# Altium footprint library DF40C-50DP.PcbLib: 1 footprints
Each footprint in its own frame and in the unit in brackets; x right, y up, seen from the top. Pads: shape width x height; smd on the part's side, far side on the other; paste and mask are expansions set on the pad; w line width, h text height; cw(c..) or ccw(c..) is an arc to the next point about the centre after c.
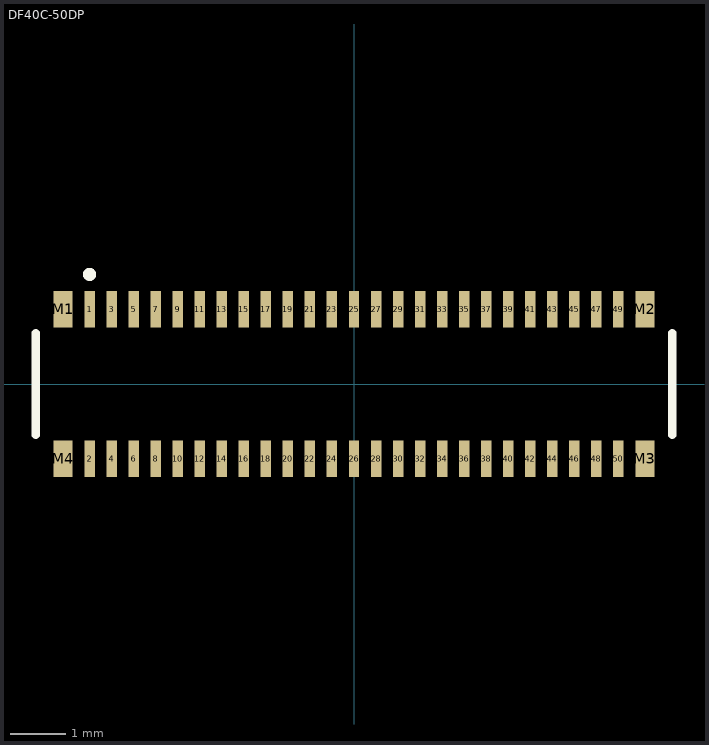
[diagram p0: the footprint, top view; thin cyan lines are the x and y axes]

## DF40C-50DP [mm]
pads (54):
  rect 0.19x0.66 smd: 1(-4.8,1.355) 2(-4.8,-1.355) 3(-4.4,1.355) 4(-4.4,-1.355) 5(-4,1.355) 6(-4,-1.355) 7(-3.6,1.355) 8(-3.6,-1.355) 9(-3.2,1.355) 10(-3.2,-1.355) 11(-2.8,1.355) 12(-2.8,-1.355) 13(-2.4,1.355) 14(-2.4,-1.355) 15(-2,1.355) 16(-2,-1.355) 17(-1.6,1.355) 18(-1.6,-1.355) 19(-1.2,1.355) 20(-1.2,-1.355) 21(-0.8,1.355) 22(-0.8,-1.355) 23(-0.4,1.355) 24(-0.4,-1.355) 25(0,1.355) 26(0,-1.355) 27(0.4,1.355) 28(0.4,-1.355) 29(0.8,1.355) 30(0.8,-1.355) 31(1.2,1.355) 32(1.2,-1.355) 33(1.6,1.355) 34(1.6,-1.355) 35(2,1.355) 36(2,-1.355) 37(2.4,1.355) 38(2.4,-1.355) 39(2.8,1.355) 40(2.8,-1.355) 41(3.2,1.355) 42(3.2,-1.355) 43(3.6,1.355) 44(3.6,-1.355) 45(4,1.355) 46(4,-1.355) 47(4.4,1.355) 48(4.4,-1.355) 49(4.8,1.355) 50(4.8,-1.355)
  rect 0.35x0.66 smd: M1(-5.28,1.355) M2(5.28,1.355) M3(5.28,-1.355) M4(-5.28,-1.355)
Top Overlay:
  circle w0.12: c-4.8,1.99 r0.06
  lines w0.15: -5.775,-0.925 -5.775,0.925 ; 5.775,-0.925 5.775,0.925
3D body "step_temp.STEP": height 1.14, standoff 0, extent -5.76,-1.485 5.76,1.485